# Altium schematic symbol library kmilo17pet-NSC_Interface.SchLib: 1433 symbols (part 33 of 51)
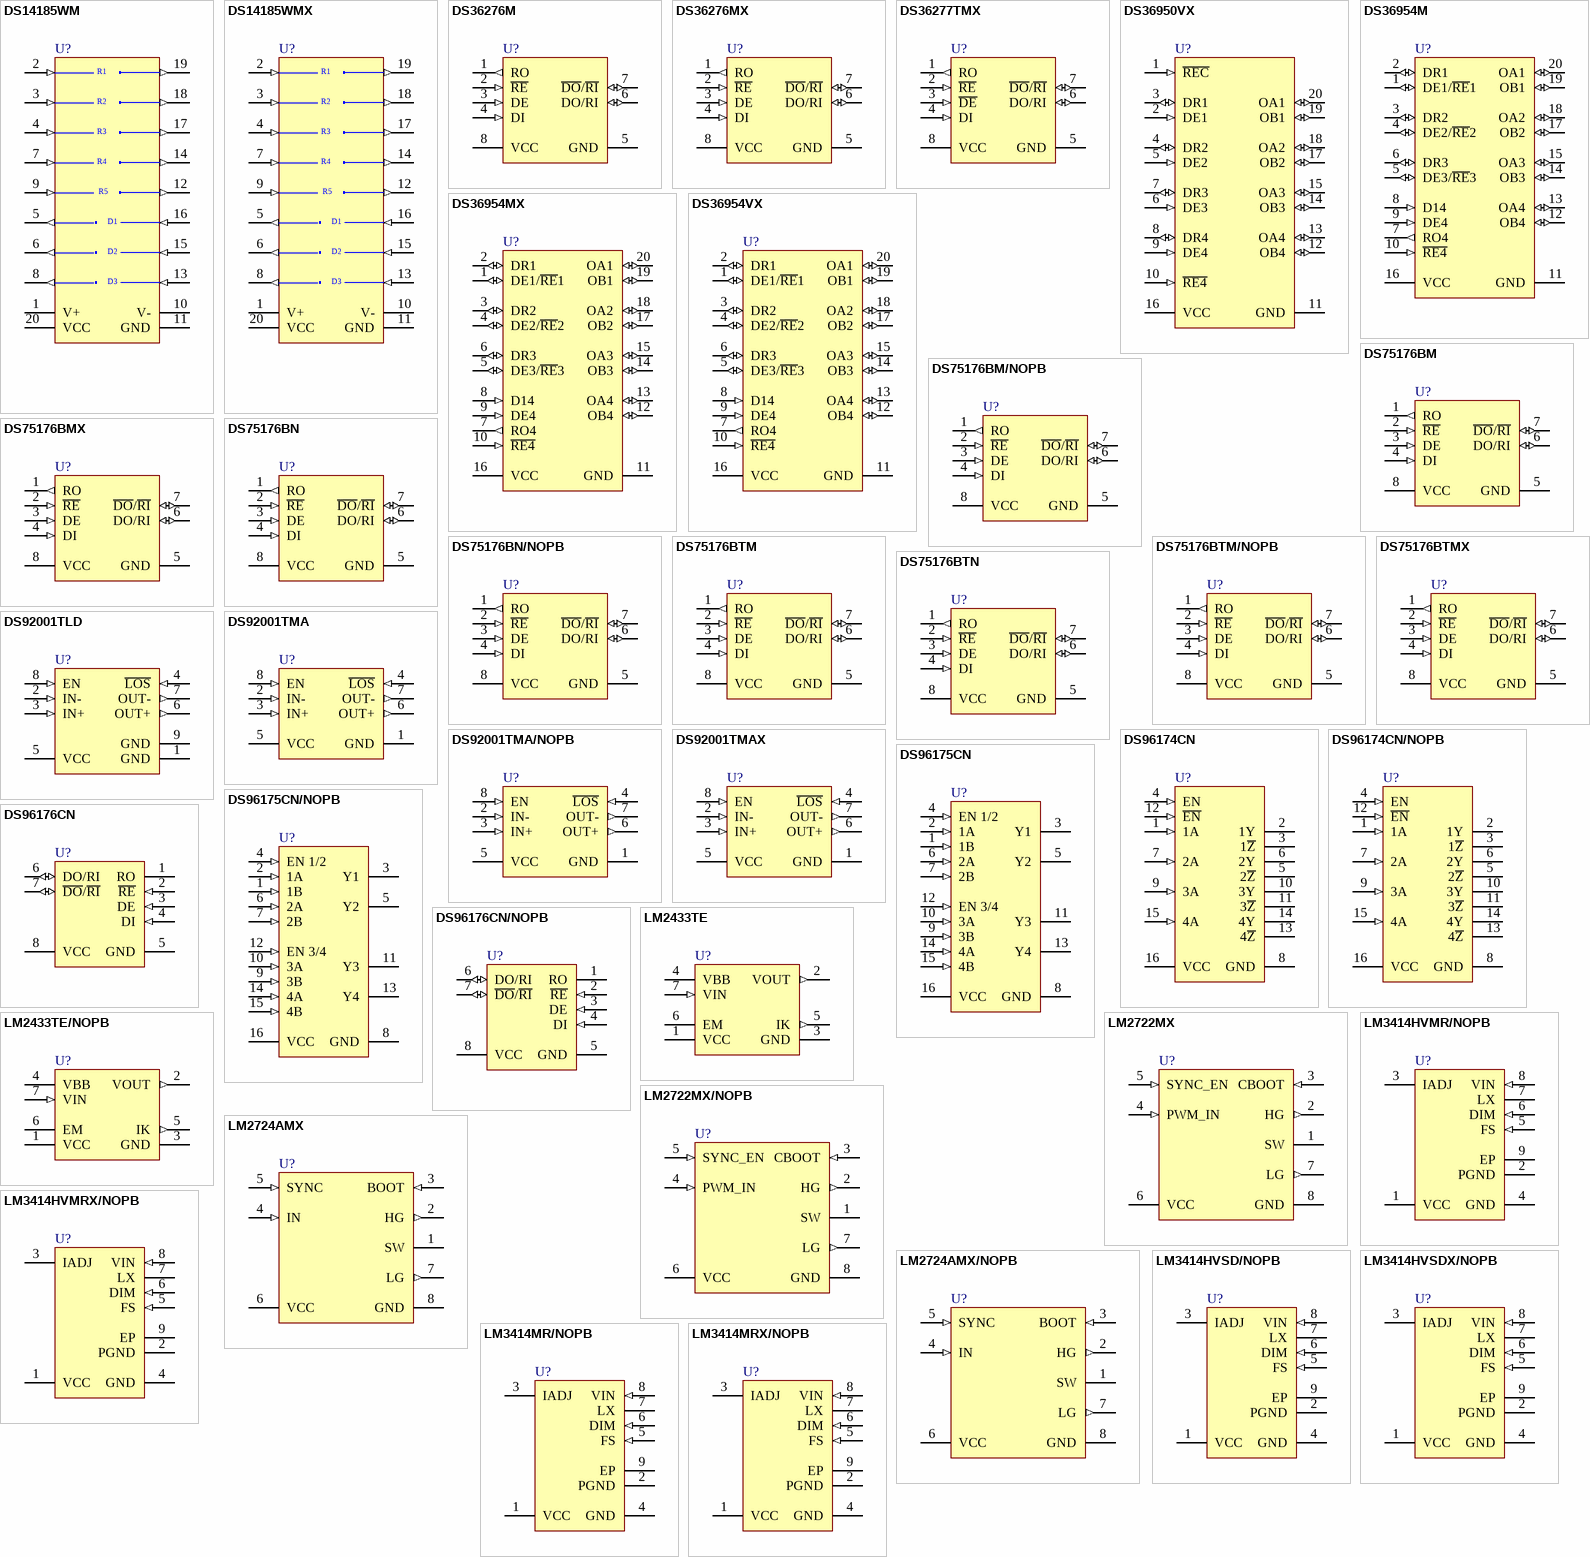
[diagram p156: symbols DS14185WM to LM3414MRX/NOPB]

## LM3414HVMRX/NOPB
designator U?
1A 60W Common Anode Capable Constant Current Buck LED Driver Requires No External Current Sensing Resistor, 8 pin PSOP; PartNumber: LM3414HVMRX/NOPB; Manufacturer: National Semiconductor; PackageTopMarking: NSXYTT*L3414*HVMR; PowerWise: Y; CompType: Interface IC; DatasheetVersion: Aug-2010; PackageVersion: revD, Dec-2007; PackageReference: MRA08A; PackageDescription: Molded, PSOP .193 x .154 x .058in, 8 Lead, .050in Pitch; RoHS: Y; PinCount: 8; High-Reliability: Y; Code_JEDEC: MS-012-AA; ComponentLink1Description: Manufacturer URL; ComponentLink1URL: http://www.national.com/; ComponentLink2Description: LM3414HV Datasheet; ComponentLink2URL: http://www.national.com/ds/LM/LM3414HV.pdf; ComponentLink3Description: LM3414HV Web Page; ComponentLink3URL: http://www.national.com/pf/LM/LM3414HV.html; ComponentLink4Description: MRA08A Package Page; ComponentLink4URL: http://www.national.com/packaging/folders/mra08a.html
footprint MRA08A_N (SOIC, 8-Leads, Body 4.9x3.9mm, Pitch 1.27mm, Thermal Pad, IPC Medium Density)
footprint MRA08A_L (SOIC, 8-Leads, Body 4.9x3.9mm, Pitch 1.27mm, Thermal Pad, IPC High Density)
footprint MRA08A_M (SOIC, 8-Leads, Body 4.9x3.9mm, Pitch 1.27mm, Thermal Pad, IPC Low Density)
pins: 1 VCC, 2 PGND (power), 3 IADJ, 4 GND (power), 5 FS (in), 6 DIM (in), 7 LX, 8 VIN (in), 9 EP (power)

## LM3414HVSD/NOPB
designator U?
1A 60W Common Anode Capable Constant Current Buck LED Driver Requires No External Current Sensing Resistor, 8 pin LLP; PartNumber: LM3414HVSD/NOPB; Manufacturer: National Semiconductor; PackageTopMarking: ZXYTT*L249B; PowerWise: Y; CompType: Interface IC; DatasheetVersion: Aug-2010; PackageVersion: revA, Aug-2003; PackageReference: SDA08A; PackageDescription: LLP, Plastic, Dual, 3 x 3 x 0.8mm Body, 8 Lead, 0.5mm Pitch, No Pullback; RoHS: Y; PinCount: 8; High-Reliability: Y; ComponentLink1Description: Manufacturer URL; ComponentLink1URL: http://www.national.com/; ComponentLink2Description: LM3414HV Datasheet; ComponentLink2URL: http://www.national.com/ds/LM/LM3414HV.pdf; ComponentLink3Description: LM3414HV Web Page; ComponentLink3URL: http://www.national.com/pf/LM/LM3414HV.html; ComponentLink4Description: SDA08A Package Page; ComponentLink4URL: http://www.national.com/packaging/folders/sda08a.html
footprint SDA08A (SON, 8-Leads, Body 3x3mm, Pitch 0.5mm, NSC Recommended)
pins: 1 VCC, 2 PGND (power), 3 IADJ, 4 GND (power), 5 FS (in), 6 DIM (in), 7 LX, 8 VIN (in), 9 EP (power)

## LM3414HVSDX/NOPB
designator U?
1A 60W Common Anode Capable Constant Current Buck LED Driver Requires No External Current Sensing Resistor, 8 pin LLP; PartNumber: LM3414HVSDX/NOPB; Manufacturer: National Semiconductor; PackageTopMarking: ZXYTT*L249B; PowerWise: Y; CompType: Interface IC; DatasheetVersion: Aug-2010; PackageVersion: revA, Aug-2003; PackageReference: SDA08A; PackageDescription: LLP, Plastic, Dual, 3 x 3 x 0.8mm Body, 8 Lead, 0.5mm Pitch, No Pullback; RoHS: Y; PinCount: 8; High-Reliability: Y; ComponentLink1Description: Manufacturer URL; ComponentLink1URL: http://www.national.com/; ComponentLink2Description: LM3414HV Datasheet; ComponentLink2URL: http://www.national.com/ds/LM/LM3414HV.pdf; ComponentLink3Description: LM3414HV Web Page; ComponentLink3URL: http://www.national.com/pf/LM/LM3414HV.html; ComponentLink4Description: SDA08A Package Page; ComponentLink4URL: http://www.national.com/packaging/folders/sda08a.html
footprint SDA08A (SON, 8-Leads, Body 3x3mm, Pitch 0.5mm, NSC Recommended)
pins: 1 VCC, 2 PGND (power), 3 IADJ, 4 GND (power), 5 FS (in), 6 DIM (in), 7 LX, 8 VIN (in), 9 EP (power)

## LM3414MR/NOPB
designator U?
1A 60W Common Anode Capable Constant Current Buck LED Driver Requires No External Current Sensing Resistor, 8 pin PSOP; PartNumber: LM3414MR/NOPB; Manufacturer: National Semiconductor; PackageTopMarking: NSXYTT*L3414*MR; PowerWise: Y; CompType: Interface IC; DatasheetVersion: Aug-2010; PackageVersion: revD, Dec-2007; PackageReference: MRA08A; PackageDescription: Molded, PSOP .193 x .154 x .058in, 8 Lead, .050in Pitch; RoHS: Y; PinCount: 8; High-Reliability: Y; Code_JEDEC: MS-012-AA; ComponentLink1Description: Manufacturer URL; ComponentLink1URL: http://www.national.com/; ComponentLink2Description: LM3414 Datasheet; ComponentLink2URL: http://www.national.com/ds/LM/LM3414.pdf; ComponentLink3Description: LM3414 Web Page; ComponentLink3URL: http://www.national.com/pf/LM/LM3414.html; ComponentLink4Description: MRA08A Package Page; ComponentLink4URL: http://www.national.com/packaging/folders/mra08a.html
footprint MRA08A_N (SOIC, 8-Leads, Body 4.9x3.9mm, Pitch 1.27mm, Thermal Pad, IPC Medium Density)
footprint MRA08A_L (SOIC, 8-Leads, Body 4.9x3.9mm, Pitch 1.27mm, Thermal Pad, IPC High Density)
footprint MRA08A_M (SOIC, 8-Leads, Body 4.9x3.9mm, Pitch 1.27mm, Thermal Pad, IPC Low Density)
pins: 1 VCC, 2 PGND (power), 3 IADJ, 4 GND (power), 5 FS (in), 6 DIM (in), 7 LX, 8 VIN (in), 9 EP (power)

## LM3414MRX/NOPB
designator U?
1A 60W Common Anode Capable Constant Current Buck LED Driver Requires No External Current Sensing Resistor, 8 pin PSOP; PartNumber: LM3414MRX/NOPB; Manufacturer: National Semiconductor; PackageTopMarking: NSXYTT*L3414*MR; PowerWise: Y; CompType: Interface IC; DatasheetVersion: Aug-2010; PackageVersion: revD, Dec-2007; PackageReference: MRA08A; PackageDescription: Molded, PSOP .193 x .154 x .058in, 8 Lead, .050in Pitch; RoHS: Y; PinCount: 8; High-Reliability: Y; Code_JEDEC: MS-012-AA; ComponentLink1Description: Manufacturer URL; ComponentLink1URL: http://www.national.com/; ComponentLink2Description: LM3414 Datasheet; ComponentLink2URL: http://www.national.com/ds/LM/LM3414.pdf; ComponentLink3Description: LM3414 Web Page; ComponentLink3URL: http://www.national.com/pf/LM/LM3414.html; ComponentLink4Description: MRA08A Package Page; ComponentLink4URL: http://www.national.com/packaging/folders/mra08a.html
footprint MRA08A_N (SOIC, 8-Leads, Body 4.9x3.9mm, Pitch 1.27mm, Thermal Pad, IPC Medium Density)
footprint MRA08A_L (SOIC, 8-Leads, Body 4.9x3.9mm, Pitch 1.27mm, Thermal Pad, IPC High Density)
footprint MRA08A_M (SOIC, 8-Leads, Body 4.9x3.9mm, Pitch 1.27mm, Thermal Pad, IPC Low Density)
pins: 1 VCC, 2 PGND (power), 3 IADJ, 4 GND (power), 5 FS (in), 6 DIM (in), 7 LX, 8 VIN (in), 9 EP (power)

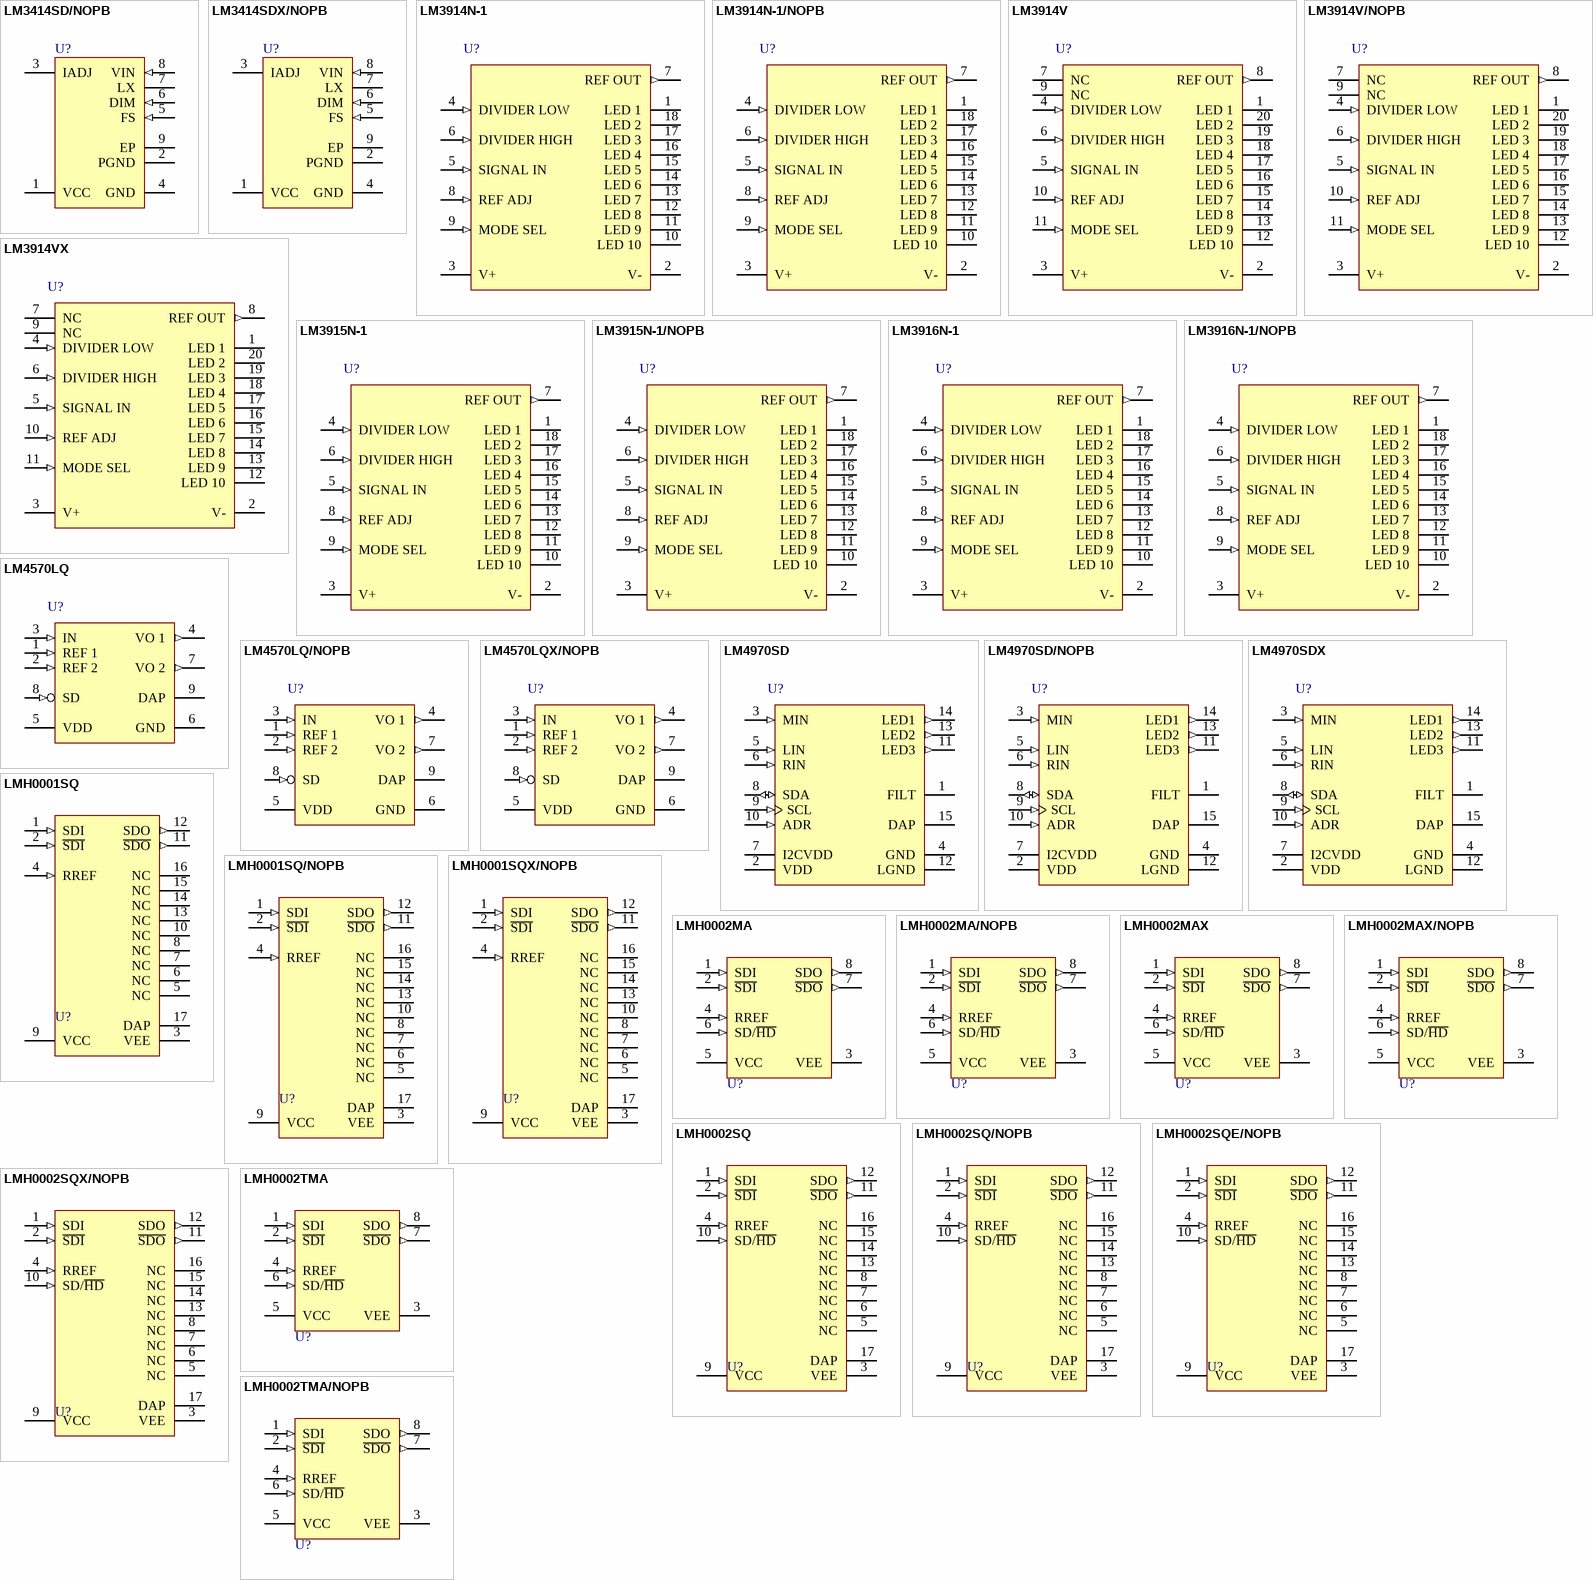
[diagram p82: symbols LM3414SD/NOPB to LMH0002TMA/NOPB]

## LM3414SD/NOPB
designator U?
1A 60W Common Anode Capable Constant Current Buck LED Driver Requires No External Current Sensing Resistor, 8 pin LLP; PartNumber: LM3414SD/NOPB; Manufacturer: National Semiconductor; PackageTopMarking: ZXYTT*L248B; PowerWise: Y; CompType: Interface IC; DatasheetVersion: Aug-2010; PackageVersion: revA, Aug-2003; PackageReference: SDA08A; PackageDescription: LLP, Plastic, Dual, 3 x 3 x 0.8mm Body, 8 Lead, 0.5mm Pitch, No Pullback; RoHS: Y; PinCount: 8; High-Reliability: Y; ComponentLink1Description: Manufacturer URL; ComponentLink1URL: http://www.national.com/; ComponentLink2Description: LM3414 Datasheet; ComponentLink2URL: http://www.national.com/ds/LM/LM3414.pdf; ComponentLink3Description: LM3414 Web Page; ComponentLink3URL: http://www.national.com/pf/LM/LM3414.html; ComponentLink4Description: SDA08A Package Page; ComponentLink4URL: http://www.national.com/packaging/folders/sda08a.html
footprint SDA08A (SON, 8-Leads, Body 3x3mm, Pitch 0.5mm, NSC Recommended)
pins: 1 VCC, 2 PGND (power), 3 IADJ, 4 GND (power), 5 FS (in), 6 DIM (in), 7 LX, 8 VIN (in), 9 EP (power)

## LM3414SDX/NOPB
designator U?
1A 60W Common Anode Capable Constant Current Buck LED Driver Requires No External Current Sensing Resistor, 8 pin LLP; PartNumber: LM3414SDX/NOPB; Manufacturer: National Semiconductor; PackageTopMarking: ZXYTT*L248B; PowerWise: Y; CompType: Interface IC; DatasheetVersion: Aug-2010; PackageVersion: revA, Aug-2003; PackageReference: SDA08A; PackageDescription: LLP, Plastic, Dual, 3 x 3 x 0.8mm Body, 8 Lead, 0.5mm Pitch, No Pullback; RoHS: Y; PinCount: 8; High-Reliability: Y; ComponentLink1Description: Manufacturer URL; ComponentLink1URL: http://www.national.com/; ComponentLink2Description: LM3414 Datasheet; ComponentLink2URL: http://www.national.com/ds/LM/LM3414.pdf; ComponentLink3Description: LM3414 Web Page; ComponentLink3URL: http://www.national.com/pf/LM/LM3414.html; ComponentLink4Description: SDA08A Package Page; ComponentLink4URL: http://www.national.com/packaging/folders/sda08a.html
footprint SDA08A (SON, 8-Leads, Body 3x3mm, Pitch 0.5mm, NSC Recommended)
pins: 1 VCC, 2 PGND (power), 3 IADJ, 4 GND (power), 5 FS (in), 6 DIM (in), 7 LX, 8 VIN (in), 9 EP (power)

## LM3914N-1
designator U?
Dot/Bar Display Driver, 18-pin MDIP; PartNumber: LM3914N-1; Manufacturer: National Semiconductor; PackageTopMarking: NSUZXYYTTE#*LM3914N-1; PowerWise: N; CompType: Audio IC; High-Reliability: Y; DatasheetVersion: Feb-2003; PackageVersion: revB, May-2006; PackageReference: NA18A; PackageDescription: MDIP, .900 x .250 x .155in, 18 Lead, .100in Pitch; RoHS: N; PinCount: 18; Code_JEDEC: MS-001-AC; ComponentLink1Description: Manufacturer URL; ComponentLink1URL: http://www.national.com/; ComponentLink2Description: LM3914 Datasheet; ComponentLink2URL: http://www.national.com/ds/LM/LM3914.pdf; ComponentLink3Description: LM3914 Web Page; ComponentLink3URL: http://www.national.com/pf/LM/LM3914.html; ComponentLink4Description: NA18A Package Page; ComponentLink4URL: http://www.national.com/packaging/folders/na18a.html
footprint NA18A (DIP, 18-Leads, Row Spacing 7.62mm, Pitch 2.54mm, Body 22.86x6.35mm)
footprint NA18A - SMD (Footprint not found)
pins: 1 LED 1 (oc), 2 V- (power), 3 V+ (power), 4 DIVIDER LOW (in), 5 SIGNAL IN (in), 6 DIVIDER HIGH (in), 7 REF OUT (out), 8 REF ADJ (in), 9 MODE SEL (in), 10 LED 10 (oc), 11 LED 9 (oc), 12 LED 8 (oc), 13 LED 7 (oc), 14 LED 6 (oc), 15 LED 5 (oc), 16 LED 4 (oc), 17 LED 3 (oc), 18 LED 2 (oc)

## LM3914N-1/NOPB
designator U?
Dot/Bar Display Driver, 18-pin MDIP, Pb-Free; PartNumber: LM3914N-1/NOPB; Manufacturer: National Semiconductor; PackageTopMarking: NSUZXYYTTE#*LM3914N-1; PowerWise: N; CompType: Audio IC; High-Reliability: Y; DatasheetVersion: Feb-2003; PackageVersion: revB, May-2006; PackageReference: NA18A; PackageDescription: MDIP, .900 x .250 x .155in, 18 Lead, .100in Pitch; RoHS: Y; PinCount: 18; Code_JEDEC: MS-001-AC; ComponentLink1Description: Manufacturer URL; ComponentLink1URL: http://www.national.com/; ComponentLink2Description: LM3914 Datasheet; ComponentLink2URL: http://www.national.com/ds/LM/LM3914.pdf; ComponentLink3Description: LM3914 Web Page; ComponentLink3URL: http://www.national.com/pf/LM/LM3914.html; ComponentLink4Description: NA18A Package Page; ComponentLink4URL: http://www.national.com/packaging/folders/na18a.html
footprint NA18A (DIP, 18-Leads, Row Spacing 7.62mm, Pitch 2.54mm, Body 22.86x6.35mm)
pins: 1 LED 1 (oc), 2 V- (power), 3 V+ (power), 4 DIVIDER LOW (in), 5 SIGNAL IN (in), 6 DIVIDER HIGH (in), 7 REF OUT (out), 8 REF ADJ (in), 9 MODE SEL (in), 10 LED 10 (oc), 11 LED 9 (oc), 12 LED 8 (oc), 13 LED 7 (oc), 14 LED 6 (oc), 15 LED 5 (oc), 16 LED 4 (oc), 17 LED 3 (oc), 18 LED 2 (oc)

## LM3914V
designator U?
Dot/Bar Display Driver, 20-pin PLCC; PartNumber: LM3914V; Manufacturer: National Semiconductor; PackageTopMarking: NSUZXYTTE#*LM3914V; PowerWise: N; CompType: Audio IC; High-Reliability: Y; DatasheetVersion: Feb-2003; PackageVersion: revL, Dec-1993; PackageReference: V20A; PackageDescription: Plastic Chip Carrier, Sq., .050in Pitch, 20 Lead; RoHS: N; PinCount: 20; Code_JEDEC: MO-047-AA; Code_IPC: PLCC-20; ComponentLink1Description: Manufacturer URL; ComponentLink1URL: http://www.national.com/; ComponentLink2Description: LM3914 Datasheet; ComponentLink2URL: http://www.national.com/ds/LM/LM3914.pdf; ComponentLink3Description: LM3914 Web Page; ComponentLink3URL: http://www.national.com/pf/LM/LM3914.html; ComponentLink4Description: V20A Package Page; ComponentLink4URL: http://www.national.com/packaging/folders/v20a.html
footprint V20A_N (Leaded Chip Carrier, 20-Leads, Body 9x9mm, Pitch 1.27mm, IPC Medium Density)
footprint V20A_L (Leaded Chip Carrier, 20-Leads, Body 9x9mm, Pitch 1.27mm, IPC High Density)
footprint V20A_M (Leaded Chip Carrier, 20-Leads, Body 9x9mm, Pitch 1.27mm, IPC Low Density)
pins: 1 LED 1 (oc), 2 V- (power), 3 V+ (power), 4 DIVIDER LOW (in), 5 SIGNAL IN (in), 6 DIVIDER HIGH (in), 7 NC, 8 REF OUT (out), 9 NC, 10 REF ADJ (in), 11 MODE SEL (in), 12 LED 10 (oc), 13 LED 9 (oc), 14 LED 8 (oc), 15 LED 7 (oc), 16 LED 6 (oc), 17 LED 5 (oc), 18 LED 4 (oc), 19 LED 3 (oc), 20 LED 2 (oc)

## LM3914V/NOPB
designator U?
Dot/Bar Display Driver, 20-pin PLCC, Pb-Free; PartNumber: LM3914V/NOPB; Manufacturer: National Semiconductor; PackageTopMarking: NSUZXYTTE#*LM3914V; PowerWise: N; CompType: Audio IC; High-Reliability: Y; DatasheetVersion: Feb-2003; PackageVersion: revL, Dec-1993; PackageReference: V20A; PackageDescription: Plastic Chip Carrier, Sq., .050in Pitch, 20 Lead; RoHS: Y; PinCount: 20; Code_JEDEC: MO-047-AA; Code_IPC: PLCC-20; ComponentLink1Description: Manufacturer URL; ComponentLink1URL: http://www.national.com/; ComponentLink2Description: LM3914 Datasheet; ComponentLink2URL: http://www.national.com/ds/LM/LM3914.pdf; ComponentLink3Description: LM3914 Web Page; ComponentLink3URL: http://www.national.com/pf/LM/LM3914.html; ComponentLink4Description: V20A Package Page; ComponentLink4URL: http://www.national.com/packaging/folders/v20a.html
footprint V20A_N (Leaded Chip Carrier, 20-Leads, Body 9x9mm, Pitch 1.27mm, IPC Medium Density)
footprint V20A_L (Leaded Chip Carrier, 20-Leads, Body 9x9mm, Pitch 1.27mm, IPC High Density)
footprint V20A_M (Leaded Chip Carrier, 20-Leads, Body 9x9mm, Pitch 1.27mm, IPC Low Density)
pins: 1 LED 1 (oc), 2 V- (power), 3 V+ (power), 4 DIVIDER LOW (in), 5 SIGNAL IN (in), 6 DIVIDER HIGH (in), 7 NC, 8 REF OUT (out), 9 NC, 10 REF ADJ (in), 11 MODE SEL (in), 12 LED 10 (oc), 13 LED 9 (oc), 14 LED 8 (oc), 15 LED 7 (oc), 16 LED 6 (oc), 17 LED 5 (oc), 18 LED 4 (oc), 19 LED 3 (oc), 20 LED 2 (oc)

## LM3914VX
designator U?
Dot/Bar Display Driver, 20-pin PLCC; PartNumber: LM3914VX; Manufacturer: National Semiconductor; PackageTopMarking: NSUZXYTTE#*LM3914V; PowerWise: N; CompType: Audio IC; High-Reliability: Y; DatasheetVersion: Feb-2003; PackageVersion: revL, Dec-1993; PackageReference: V20A; PackageDescription: Plastic Chip Carrier, Sq., .050in Pitch, 20 Lead; RoHS: N; PinCount: 20; Code_JEDEC: MO-047-AA; Code_IPC: PLCC-20; ComponentLink1Description: Manufacturer URL; ComponentLink1URL: http://www.national.com/; ComponentLink2Description: LM3914 Datasheet; ComponentLink2URL: http://www.national.com/ds/LM/LM3914.pdf; ComponentLink3Description: LM3914 Web Page; ComponentLink3URL: http://www.national.com/pf/LM/LM3914.html; ComponentLink4Description: V20A Package Page; ComponentLink4URL: http://www.national.com/packaging/folders/v20a.html
footprint V20A_N (Leaded Chip Carrier, 20-Leads, Body 9x9mm, Pitch 1.27mm, IPC Medium Density)
footprint V20A_L (Leaded Chip Carrier, 20-Leads, Body 9x9mm, Pitch 1.27mm, IPC High Density)
footprint V20A_M (Leaded Chip Carrier, 20-Leads, Body 9x9mm, Pitch 1.27mm, IPC Low Density)
pins: 1 LED 1 (oc), 2 V- (power), 3 V+ (power), 4 DIVIDER LOW (in), 5 SIGNAL IN (in), 6 DIVIDER HIGH (in), 7 NC, 8 REF OUT (out), 9 NC, 10 REF ADJ (in), 11 MODE SEL (in), 12 LED 10 (oc), 13 LED 9 (oc), 14 LED 8 (oc), 15 LED 7 (oc), 16 LED 6 (oc), 17 LED 5 (oc), 18 LED 4 (oc), 19 LED 3 (oc), 20 LED 2 (oc)

## LM3915N-1
designator U?
Dot/Bar Display Driver, 18-pin MDIP; PartNumber: LM3915N-1; Manufacturer: National Semiconductor; PackageTopMarking: NSUZXYYTTE#*LM3915N-1; PowerWise: N; CompType: Audio IC; High-Reliability: Y; DatasheetVersion: Feb-2001; PackageVersion: revB, May-2006; PackageReference: NA18A; PackageDescription: MDIP, .900 x .250 x .155in, 18 Lead, .100in Pitch; RoHS: N; PinCount: 18; Code_JEDEC: MS-001-AC; ComponentLink1Description: Manufacturer URL; ComponentLink1URL: http://www.national.com/; ComponentLink2Description: LM3915 Datasheet; ComponentLink2URL: http://www.national.com/ds/LM/LM3915.pdf; ComponentLink3Description: LM3915 Web Page; ComponentLink3URL: http://www.national.com/pf/LM/LM3915.html; ComponentLink4Description: NA18A Package Page; ComponentLink4URL: http://www.national.com/packaging/folders/na18a.html
footprint NA18A (DIP, 18-Leads, Row Spacing 7.62mm, Pitch 2.54mm, Body 22.86x6.35mm)
pins: 1 LED 1 (oc), 2 V- (power), 3 V+ (power), 4 DIVIDER LOW (in), 5 SIGNAL IN (in), 6 DIVIDER HIGH (in), 7 REF OUT (out), 8 REF ADJ (in), 9 MODE SEL (in), 10 LED 10 (oc), 11 LED 9 (oc), 12 LED 8 (oc), 13 LED 7 (oc), 14 LED 6 (oc), 15 LED 5 (oc), 16 LED 4 (oc), 17 LED 3 (oc), 18 LED 2 (oc)

## LM3915N-1/NOPB
designator U?
Dot/Bar Display Driver, 18-pin MDIP, Pb-Free; PartNumber: LM3915N-1/NOPB; Manufacturer: National Semiconductor; PackageTopMarking: NSUZXYYTTE#*LM3915N-1; PowerWise: N; CompType: Audio IC; High-Reliability: Y; DatasheetVersion: Feb-2001; PackageVersion: revB, May-2006; PackageReference: NA18A; PackageDescription: MDIP, .900 x .250 x .155in, 18 Lead, .100in Pitch; RoHS: Y; PinCount: 18; Code_JEDEC: MS-001-AC; ComponentLink1Description: Manufacturer URL; ComponentLink1URL: http://www.national.com/; ComponentLink2Description: LM3915 Datasheet; ComponentLink2URL: http://www.national.com/ds/LM/LM3915.pdf; ComponentLink3Description: LM3915 Web Page; ComponentLink3URL: http://www.national.com/pf/LM/LM3915.html; ComponentLink4Description: NA18A Package Page; ComponentLink4URL: http://www.national.com/packaging/folders/na18a.html
footprint NA18A (DIP, 18-Leads, Row Spacing 7.62mm, Pitch 2.54mm, Body 22.86x6.35mm)
pins: 1 LED 1 (oc), 2 V- (power), 3 V+ (power), 4 DIVIDER LOW (in), 5 SIGNAL IN (in), 6 DIVIDER HIGH (in), 7 REF OUT (out), 8 REF ADJ (in), 9 MODE SEL (in), 10 LED 10 (oc), 11 LED 9 (oc), 12 LED 8 (oc), 13 LED 7 (oc), 14 LED 6 (oc), 15 LED 5 (oc), 16 LED 4 (oc), 17 LED 3 (oc), 18 LED 2 (oc)

## LM3916N-1
designator U?
Dot/Bar Display Driver, 18-pin MDIP; PartNumber: LM3916N-1; Manufacturer: National Semiconductor; PackageTopMarking: NSUZXYYTTE#*LM3916N-1; PowerWise: N; CompType: Audio IC; High-Reliability: Y; DatasheetVersion: Jan-2000; PackageVersion: revB, May-2006; PackageReference: NA18A; PackageDescription: MDIP, .900 x .250 x .155in, 18 Lead, .100in Pitch; RoHS: N; PinCount: 18; Code_JEDEC: MS-001-AC; ComponentLink1Description: Manufacturer URL; ComponentLink1URL: http://www.national.com/; ComponentLink2Description: LM3916 Datasheet; ComponentLink2URL: http://www.national.com/ds/LM/LM3916.pdf; ComponentLink3Description: LM3916 Web Page; ComponentLink3URL: http://www.national.com/pf/LM/LM3916.html; ComponentLink4Description: NA18A Package Page; ComponentLink4URL: http://www.national.com/packaging/folders/na18a.html
footprint NA18A (DIP, 18-Leads, Row Spacing 7.62mm, Pitch 2.54mm, Body 22.86x6.35mm)
pins: 1 LED 1 (oc), 2 V- (power), 3 V+ (power), 4 DIVIDER LOW (in), 5 SIGNAL IN (in), 6 DIVIDER HIGH (in), 7 REF OUT (out), 8 REF ADJ (in), 9 MODE SEL (in), 10 LED 10 (oc), 11 LED 9 (oc), 12 LED 8 (oc), 13 LED 7 (oc), 14 LED 6 (oc), 15 LED 5 (oc), 16 LED 4 (oc), 17 LED 3 (oc), 18 LED 2 (oc)

## LM3916N-1/NOPB
designator U?
Dot/Bar Display Driver, 18-pin MDIP, Pb-Free; PartNumber: LM3916N-1/NOPB; Manufacturer: National Semiconductor; PackageTopMarking: NSUZXYYTTE#*LM3916N-1; PowerWise: N; CompType: Audio IC; High-Reliability: Y; DatasheetVersion: Jan-2000; PackageVersion: revB, May-2006; PackageReference: NA18A; PackageDescription: MDIP, .900 x .250 x .155in, 18 Lead, .100in Pitch; RoHS: Y; PinCount: 18; Code_JEDEC: MS-001-AC; ComponentLink1Description: Manufacturer URL; ComponentLink1URL: http://www.national.com/; ComponentLink2Description: LM3916 Datasheet; ComponentLink2URL: http://www.national.com/ds/LM/LM3916.pdf; ComponentLink3Description: LM3916 Web Page; ComponentLink3URL: http://www.national.com/pf/LM/LM3916.html; ComponentLink4Description: NA18A Package Page; ComponentLink4URL: http://www.national.com/packaging/folders/na18a.html
footprint NA18A (DIP, 18-Leads, Row Spacing 7.62mm, Pitch 2.54mm, Body 22.86x6.35mm)
pins: 1 LED 1 (oc), 2 V- (power), 3 V+ (power), 4 DIVIDER LOW (in), 5 SIGNAL IN (in), 6 DIVIDER HIGH (in), 7 REF OUT (out), 8 REF ADJ (in), 9 MODE SEL (in), 10 LED 10 (oc), 11 LED 9 (oc), 12 LED 8 (oc), 13 LED 7 (oc), 14 LED 6 (oc), 15 LED 5 (oc), 16 LED 4 (oc), 17 LED 3 (oc), 18 LED 2 (oc)

## LM4570LQ
designator U?
Single-Ended Input Motor Driver, 9-pin LLP; PartNumber: LM4570LQ; Manufacturer: National Semiconductor; PackageTopMarking: XTT*GC8; PowerWise: N; CompType: Audio IC; High-Reliability: Y; DatasheetVersion: Jul-2009; PackageVersion: revB, Nov-2002; PackageReference: LQB08A; PackageDescription: LLP, Plastic, Quad, 2 x 2 x 0.75mm Body, 8 Lead, 0.65mm Pitch; RoHS: Y; PinCount: 8; ComponentLink1Description: Manufacturer URL; ComponentLink1URL: http://www.national.com/; ComponentLink2Description: LM4570 Datasheet; ComponentLink2URL: http://www.national.com/ds/LM/LM4570.pdf; ComponentLink3Description: LM4570 Web Page; ComponentLink3URL: http://www.national.com/pf/LM/LM4570.html; ComponentLink4Description: LQB08A Package Page; ComponentLink4URL: http://www.national.com/packaging/folders/lqb08a.html
footprint LQB08A (PQFN, 8-Leads, Body 2x2mm, Pitch 0.65mm, Thermal Pad 0.8x0.8mm, NSC Recommended)
pins: 1 REF 1 (in), 2 REF 2 (in), 3 IN (in), 4 VO 1 (out), 5 VDD (power), 6 GND (power), 7 VO 2 (out), 8 SD (in), 9 DAP (power)

## LM4570LQ/NOPB
designator U?
Single-Ended Input Motor Driver, 8-pin LLP, Pb-Free; PartNumber: LM4570LQ/NOPB; Manufacturer: National Semiconductor; PackageTopMarking: XTT*GC8; PowerWise: N; CompType: Audio IC; High-Reliability: Y; DatasheetVersion: Jul-2009; PackageVersion: revB, Nov-2002; PackageReference: LQB08A; PackageDescription: LLP, Plastic, Quad, 2 x 2 x 0.75mm Body, 8 Lead, 0.65mm Pitch; RoHS: Y; PinCount: 8; ComponentLink1Description: Manufacturer URL; ComponentLink1URL: http://www.national.com/; ComponentLink2Description: LM4570 Datasheet; ComponentLink2URL: http://www.national.com/ds/LM/LM4570.pdf; ComponentLink3Description: LM4570 Web Page; ComponentLink3URL: http://www.national.com/pf/LM/LM4570.html; ComponentLink4Description: LQB08A Package Page; ComponentLink4URL: http://www.national.com/packaging/folders/lqb08a.html
footprint LQB08A (PQFN, 8-Leads, Body 2x2mm, Pitch 0.65mm, Thermal Pad 0.8x0.8mm, NSC Recommended)
pins: 1 REF 1 (in), 2 REF 2 (in), 3 IN (in), 4 VO 1 (out), 5 VDD (power), 6 GND (power), 7 VO 2 (out), 8 SD (in), 9 DAP (power)

## LM4570LQX/NOPB
designator U?
Single-Ended Input Motor Driver, 8-pin LLP, Pb-Free; PartNumber: LM4570LQX/NOPB; Manufacturer: National Semiconductor; PackageTopMarking: XTT*GC8; PowerWise: N; CompType: Audio IC; High-Reliability: Y; DatasheetVersion: Jul-2009; PackageVersion: revB, Nov-2002; PackageReference: LQB08A; PackageDescription: LLP, Plastic, Quad, 2 x 2 x 0.75mm Body, 8 Lead, 0.65mm Pitch; RoHS: Y; PinCount: 8; ComponentLink1Description: Manufacturer URL; ComponentLink1URL: http://www.national.com/; ComponentLink2Description: LM4570 Datasheet; ComponentLink2URL: http://www.national.com/ds/LM/LM4570.pdf; ComponentLink3Description: LM4570 Web Page; ComponentLink3URL: http://www.national.com/pf/LM/LM4570.html; ComponentLink4Description: LQB08A Package Page; ComponentLink4URL: http://www.national.com/packaging/folders/lqb08a.html
footprint LQB08A (PQFN, 8-Leads, Body 2x2mm, Pitch 0.65mm, Thermal Pad 0.8x0.8mm, NSC Recommended)
pins: 1 REF 1 (in), 2 REF 2 (in), 3 IN (in), 4 VO 1 (out), 5 VDD (power), 6 GND (power), 7 VO 2 (out), 8 SD (in), 9 DAP (power)

## LM4970SD
designator U?
Audio Synchronized Color LED Driver, 15-pin LLP; PartNumber: LM4970SD; Manufacturer: National Semiconductor; PackageTopMarking: ZXYTTE#*L4970; PowerWise: Y; CompType: Audio IC; DatasheetVersion: Apr-2008; PackageVersion: revA, Jun-2003; PackageReference: SDA14A; PackageDescription: LLP, Plastic, Dual, 4 x 3 x 0.8mm Body, 14 Lead, 0.5mm Pitch, No Pullback; RoHS: N; PinCount: 14; High-Reliability: Y; ComponentLink1Description: Manufacturer URL; ComponentLink1URL: http://www.national.com/; ComponentLink2Description: LM4970 Datasheet; ComponentLink2URL: http://www.national.com/ds/LM/LM4970.pdf; ComponentLink3Description: LM4970 Web Page; ComponentLink3URL: http://www.national.com/pf/LM/LM4970.html; ComponentLink4Description: SDA14A Package Page; ComponentLink4URL: http://www.national.com/packaging/folders/sda14a.html
footprint SDA14A (SON, 14-Leads, Body 4x3mm, Pitch 0.5mm, NSC Recommended)
pins: 1 FILT, 2 VDD (power), 3 MIN (in), 4 GND (power), 5 LIN (in), 6 RIN (in), 7 I2CVDD (power), 8 SDA (io), 9 SCL (in), 10 ADR (in), 11 LED3 (out), 12 LGND (power), 13 LED2 (out), 14 LED1 (out), 15 DAP (power)

## LM4970SD/NOPB
designator U?
Audio Synchronized Color LED Driver, 14-pin LLP, Pb-Free; PartNumber: LM4970SD/NOPB; Manufacturer: National Semiconductor; PackageTopMarking: ZXYTTE#*L4970; PowerWise: Y; CompType: Audio IC; DatasheetVersion: Apr-2008; PackageVersion: revA, Jun-2003; PackageReference: SDA14A; PackageDescription: LLP, Plastic, Dual, 4 x 3 x 0.8mm Body, 14 Lead, 0.5mm Pitch, No Pullback; RoHS: Y; PinCount: 14; High-Reliability: Y; ComponentLink1Description: Manufacturer URL; ComponentLink1URL: http://www.national.com/; ComponentLink2Description: LM4970 Datasheet; ComponentLink2URL: http://www.national.com/ds/LM/LM4970.pdf; ComponentLink3Description: LM4970 Web Page; ComponentLink3URL: http://www.national.com/pf/LM/LM4970.html; ComponentLink4Description: SDA14A Package Page; ComponentLink4URL: http://www.national.com/packaging/folders/sda14a.html
footprint SDA14A (SON, 14-Leads, Body 4x3mm, Pitch 0.5mm, NSC Recommended)
pins: 1 FILT, 2 VDD (power), 3 MIN (in), 4 GND (power), 5 LIN (in), 6 RIN (in), 7 I2CVDD (power), 8 SDA (io), 9 SCL (in), 10 ADR (in), 11 LED3 (out), 12 LGND (power), 13 LED2 (out), 14 LED1 (out), 15 DAP (power)

## LM4970SDX
designator U?
Audio Synchronized Color LED Driver, 14-pin LLP; PartNumber: LM4970SDX; Manufacturer: National Semiconductor; PackageTopMarking: ZXYTTE#*L4970; PowerWise: Y; CompType: Audio IC; DatasheetVersion: Apr-2008; PackageVersion: revA, Jun-2003; PackageReference: SDA14A; PackageDescription: LLP, Plastic, Dual, 4 x 3 x 0.8mm Body, 14 Lead, 0.5mm Pitch, No Pullback; RoHS: N; PinCount: 14; High-Reliability: Y; ComponentLink1Description: Manufacturer URL; ComponentLink1URL: http://www.national.com/; ComponentLink2Description: LM4970 Datasheet; ComponentLink2URL: http://www.national.com/ds/LM/LM4970.pdf; ComponentLink3Description: LM4970 Web Page; ComponentLink3URL: http://www.national.com/pf/LM/LM4970.html; ComponentLink4Description: SDA14A Package Page; ComponentLink4URL: http://www.national.com/packaging/folders/sda14a.html
footprint SDA14A (SON, 14-Leads, Body 4x3mm, Pitch 0.5mm, NSC Recommended)
pins: 1 FILT, 2 VDD (power), 3 MIN (in), 4 GND (power), 5 LIN (in), 6 RIN (in), 7 I2CVDD (power), 8 SDA (io), 9 SCL (in), 10 ADR (in), 11 LED3 (out), 12 LGND (power), 13 LED2 (out), 14 LED1 (out), 15 DAP (power)

## LMH0001SQ
designator U?
SMPTE 259M / 344M Serial Digital Cable Driver, 16-pin LLP; PartNumber: LMH0001SQ; Manufacturer: National Semiconductor; PackageTopMarking: NS*UZXYTT*L001; PowerWise: N; CompType: Interface IC; High-Reliability: Y; DatasheetVersion: Jan-2008; PackageVersion: revA, Dec-2005; PackageReference: SQB16A; PackageDescription: LLP, Plastic, Quad, 4 x 4 x 0.8mm, 16 Lead, 0.65mm Pitch, No Pullback; RoHS: Y; PinCount: 16; ComponentLink1Description: Manufacturer URL; ComponentLink1URL: http://www.national.com/; ComponentLink2Description: LMH0001 Datasheet; ComponentLink2URL: http://www.national.com/ds/LM/LMH0001.pdf; ComponentLink3Description: LMH0001 Web Page; ComponentLink3URL: http://www.national.com/pf/LM/LMH0001.html; ComponentLink4Description: SQB16A Package Page; ComponentLink4URL: http://www.national.com/packaging/folders/sqb16a.html
footprint SQB16A (QFN, 16-Leads, Body 4x4mm, Pitch 0.65mm, Thermal Pad 2.6x2.6mm, NSC Recommended)
pins: 1 SDI (in), 2 ~{SDI} (in), 3 VEE (power), 4 RREF (in), 5 NC, 6 NC, 7 NC, 8 NC, 9 VCC (power), 10 NC, 11 ~{SDO} (out), 12 SDO (out), 13 NC, 14 NC, 15 NC, 16 NC, 17 DAP (power)

## LMH0001SQ/NOPB
designator U?
SMPTE 259M / 344M Serial Digital Cable Driver, 16-pin LLP, Pb-Free; PartNumber: LMH0001SQ/NOPB; Manufacturer: National Semiconductor; PackageTopMarking: NS*UZXYTT*L001; PowerWise: N; CompType: Interface IC; High-Reliability: Y; DatasheetVersion: Jan-2008; PackageVersion: revA, Dec-2005; PackageReference: SQB16A; PackageDescription: LLP, Plastic, Quad, 4 x 4 x 0.8mm, 16 Lead, 0.65mm Pitch, No Pullback; RoHS: Y; PinCount: 16; ComponentLink1Description: Manufacturer URL; ComponentLink1URL: http://www.national.com/; ComponentLink2Description: LMH0001 Datasheet; ComponentLink2URL: http://www.national.com/ds/LM/LMH0001.pdf; ComponentLink3Description: LMH0001 Web Page; ComponentLink3URL: http://www.national.com/pf/LM/LMH0001.html; ComponentLink4Description: SQB16A Package Page; ComponentLink4URL: http://www.national.com/packaging/folders/sqb16a.html
footprint SQB16A (QFN, 16-Leads, Body 4x4mm, Pitch 0.65mm, Thermal Pad 2.6x2.6mm, NSC Recommended)
pins: 1 SDI (in), 2 ~{SDI} (in), 3 VEE (power), 4 RREF (in), 5 NC, 6 NC, 7 NC, 8 NC, 9 VCC (power), 10 NC, 11 ~{SDO} (out), 12 SDO (out), 13 NC, 14 NC, 15 NC, 16 NC, 17 DAP (power)

## LMH0001SQX/NOPB
designator U?
SMPTE 259M / 344M Serial Digital Cable Driver, 16-pin LLP, Pb-Free; PartNumber: LMH0001SQX/NOPB; Manufacturer: National Semiconductor; PackageTopMarking: NS*UZXYTT*L001; PowerWise: N; CompType: Interface IC; High-Reliability: Y; DatasheetVersion: Jan-2008; PackageVersion: revA, Dec-2005; PackageReference: SQB16A; PackageDescription: LLP, Plastic, Quad, 4 x 4 x 0.8mm, 16 Lead, 0.65mm Pitch, No Pullback; RoHS: Y; PinCount: 16; ComponentLink1Description: Manufacturer URL; ComponentLink1URL: http://www.national.com/; ComponentLink2Description: LMH0001 Datasheet; ComponentLink2URL: http://www.national.com/ds/LM/LMH0001.pdf; ComponentLink3Description: LMH0001 Web Page; ComponentLink3URL: http://www.national.com/pf/LM/LMH0001.html; ComponentLink4Description: SQB16A Package Page; ComponentLink4URL: http://www.national.com/packaging/folders/sqb16a.html
footprint SQB16A (QFN, 16-Leads, Body 4x4mm, Pitch 0.65mm, Thermal Pad 2.6x2.6mm, NSC Recommended)
pins: 1 SDI (in), 2 ~{SDI} (in), 3 VEE (power), 4 RREF (in), 5 NC, 6 NC, 7 NC, 8 NC, 9 VCC (power), 10 NC, 11 ~{SDO} (out), 12 SDO (out), 13 NC, 14 NC, 15 NC, 16 NC, 17 DAP (power)

## LMH0002MA
designator U?
SMPTE 292M / 259M Serial Digital Cable Driver, 8-pin Narrow SOIC; PartNumber: LMH0002MA; Manufacturer: National Semiconductor; PackageTopMarking: NSZXTT*L002; PowerWise: N; CompType: Interface IC; High-Reliability: Y; DatasheetVersion: Aug-2008; PackageVersion: revM, May-2009; PackageReference: M08A; PackageDescription: SOIC Narrow, 4.9 x 3.9 x 1.45mm, 8 Lead, 1.27mm Pitch; RoHS: N; PinCount: 8; Code_JEDEC: MS-012-AA; Code_IPC: SOIC127P600-8; ComponentLink1Description: Manufacturer URL; ComponentLink1URL: http://www.national.com/; ComponentLink2Description: LMH0002 Datasheet; ComponentLink2URL: http://www.national.com/ds/LM/LMH0002.pdf; ComponentLink3Description: LMH0002 Web Page; ComponentLink3URL: http://www.national.com/pf/LM/LMH0002.html; ComponentLink4Description: M08A Package Page; ComponentLink4URL: http://www.national.com/packaging/folders/m08a.html
footprint M08A_N (SOIC, 8-Leads, Body 4.9x3.9mm, Pitch 1.27mm, IPC Medium Density)
footprint M08A_L (SOIC, 8-Leads, Body 4.9x3.9mm, Pitch 1.27mm, IPC High Density)
footprint M08A_M (SOIC, 8-Leads, Body 4.9x3.9mm, Pitch 1.27mm, IPC Low Density)
pins: 1 SDI (in), 2 ~{SDI} (in), 3 VEE (power), 4 RREF (in), 5 VCC (power), 6 SD/~{HD} (in), 7 ~{SDO} (out), 8 SDO (out)

## LMH0002MA/NOPB
designator U?
SMPTE 292M / 259M Serial Digital Cable Driver, 8-pin Narrow SOIC, Pb-Free; PartNumber: LMH0002MA/NOPB; Manufacturer: National Semiconductor; PackageTopMarking: NSZXTT*L002; PowerWise: N; CompType: Interface IC; High-Reliability: Y; DatasheetVersion: Aug-2008; PackageVersion: revM, May-2009; PackageReference: M08A; PackageDescription: SOIC Narrow, 4.9 x 3.9 x 1.45mm, 8 Lead, 1.27mm Pitch; RoHS: Y; PinCount: 8; Code_JEDEC: MS-012-AA; Code_IPC: SOIC127P600-8; ComponentLink1Description: Manufacturer URL; ComponentLink1URL: http://www.national.com/; ComponentLink2Description: LMH0002 Datasheet; ComponentLink2URL: http://www.national.com/ds/LM/LMH0002.pdf; ComponentLink3Description: LMH0002 Web Page; ComponentLink3URL: http://www.national.com/pf/LM/LMH0002.html; ComponentLink4Description: M08A Package Page; ComponentLink4URL: http://www.national.com/packaging/folders/m08a.html
footprint M08A_N (SOIC, 8-Leads, Body 4.9x3.9mm, Pitch 1.27mm, IPC Medium Density)
footprint M08A_L (SOIC, 8-Leads, Body 4.9x3.9mm, Pitch 1.27mm, IPC High Density)
footprint M08A_M (SOIC, 8-Leads, Body 4.9x3.9mm, Pitch 1.27mm, IPC Low Density)
pins: 1 SDI (in), 2 ~{SDI} (in), 3 VEE (power), 4 RREF (in), 5 VCC (power), 6 SD/~{HD} (in), 7 ~{SDO} (out), 8 SDO (out)

## LMH0002MAX
designator U?
SMPTE 292M / 259M Serial Digital Cable Driver, 8-pin Narrow SOIC; PartNumber: LMH0002MAX; Manufacturer: National Semiconductor; PackageTopMarking: NSZXTT*L002; PowerWise: N; CompType: Interface IC; High-Reliability: Y; DatasheetVersion: Aug-2008; PackageVersion: revM, May-2009; PackageReference: M08A; PackageDescription: SOIC Narrow, 4.9 x 3.9 x 1.45mm, 8 Lead, 1.27mm Pitch; RoHS: N; PinCount: 8; Code_JEDEC: MS-012-AA; Code_IPC: SOIC127P600-8; ComponentLink1Description: Manufacturer URL; ComponentLink1URL: http://www.national.com/; ComponentLink2Description: LMH0002 Datasheet; ComponentLink2URL: http://www.national.com/ds/LM/LMH0002.pdf; ComponentLink3Description: LMH0002 Web Page; ComponentLink3URL: http://www.national.com/pf/LM/LMH0002.html; ComponentLink4Description: M08A Package Page; ComponentLink4URL: http://www.national.com/packaging/folders/m08a.html
footprint M08A_N (SOIC, 8-Leads, Body 4.9x3.9mm, Pitch 1.27mm, IPC Medium Density)
footprint M08A_L (SOIC, 8-Leads, Body 4.9x3.9mm, Pitch 1.27mm, IPC High Density)
footprint M08A_M (SOIC, 8-Leads, Body 4.9x3.9mm, Pitch 1.27mm, IPC Low Density)
pins: 1 SDI (in), 2 ~{SDI} (in), 3 VEE (power), 4 RREF (in), 5 VCC (power), 6 SD/~{HD} (in), 7 ~{SDO} (out), 8 SDO (out)

## LMH0002MAX/NOPB
designator U?
SMPTE 292M / 259M Serial Digital Cable Driver, 8-pin Narrow SOIC, Pb-Free; PartNumber: LMH0002MAX/NOPB; Manufacturer: National Semiconductor; PackageTopMarking: NSZXTT*L002; PowerWise: N; CompType: Interface IC; High-Reliability: Y; DatasheetVersion: Aug-2008; PackageVersion: revM, May-2009; PackageReference: M08A; PackageDescription: SOIC Narrow, 4.9 x 3.9 x 1.45mm, 8 Lead, 1.27mm Pitch; RoHS: Y; PinCount: 8; Code_JEDEC: MS-012-AA; Code_IPC: SOIC127P600-8; ComponentLink1Description: Manufacturer URL; ComponentLink1URL: http://www.national.com/; ComponentLink2Description: LMH0002 Datasheet; ComponentLink2URL: http://www.national.com/ds/LM/LMH0002.pdf; ComponentLink3Description: LMH0002 Web Page; ComponentLink3URL: http://www.national.com/pf/LM/LMH0002.html; ComponentLink4Description: M08A Package Page; ComponentLink4URL: http://www.national.com/packaging/folders/m08a.html
footprint M08A_N (SOIC, 8-Leads, Body 4.9x3.9mm, Pitch 1.27mm, IPC Medium Density)
footprint M08A_L (SOIC, 8-Leads, Body 4.9x3.9mm, Pitch 1.27mm, IPC High Density)
footprint M08A_M (SOIC, 8-Leads, Body 4.9x3.9mm, Pitch 1.27mm, IPC Low Density)
pins: 1 SDI (in), 2 ~{SDI} (in), 3 VEE (power), 4 RREF (in), 5 VCC (power), 6 SD/~{HD} (in), 7 ~{SDO} (out), 8 SDO (out)

## LMH0002SQ
designator U?
SMPTE 292M / 259M Serial Digital Cable Driver, 16-pin LLP; PartNumber: LMH0002SQ; Manufacturer: National Semiconductor; PackageTopMarking: NS*UZXYTT*L002; PowerWise: N; CompType: Interface IC; High-Reliability: Y; DatasheetVersion: Aug-2008; PackageVersion: revA, Dec-2005; PackageReference: SQB16A; PackageDescription: LLP, Plastic, Quad, 4 x 4 x 0.8mm, 16 Lead, 0.65mm Pitch, No Pullback; RoHS: N; PinCount: 16; ComponentLink1Description: Manufacturer URL; ComponentLink1URL: http://www.national.com/; ComponentLink2Description: LMH0002 Datasheet; ComponentLink2URL: http://www.national.com/ds/LM/LMH0002.pdf; ComponentLink3Description: LMH0002 Web Page; ComponentLink3URL: http://www.national.com/pf/LM/LMH0002.html; ComponentLink4Description: SQB16A Package Page; ComponentLink4URL: http://www.national.com/packaging/folders/sqb16a.html
footprint SQB16A (QFN, 16-Leads, Body 4x4mm, Pitch 0.65mm, Thermal Pad 2.6x2.6mm, NSC Recommended)
pins: 1 SDI (in), 2 ~{SDI} (in), 3 VEE (power), 4 RREF (in), 5 NC, 6 NC, 7 NC, 8 NC, 9 VCC (power), 10 SD/~{HD} (in), 11 ~{SDO} (out), 12 SDO (out), 13 NC, 14 NC, 15 NC, 16 NC, 17 DAP (power)

## LMH0002SQ/NOPB
designator U?
SMPTE 292M / 259M Serial Digital Cable Driver, 16-pin LLP, Pb-Free; PartNumber: LMH0002SQ/NOPB; Manufacturer: National Semiconductor; PackageTopMarking: NS*UZXYTT*L002; PowerWise: N; CompType: Interface IC; High-Reliability: Y; DatasheetVersion: Aug-2008; PackageVersion: revA, Dec-2005; PackageReference: SQB16A; PackageDescription: LLP, Plastic, Quad, 4 x 4 x 0.8mm, 16 Lead, 0.65mm Pitch, No Pullback; RoHS: Y; PinCount: 16; ComponentLink1Description: Manufacturer URL; ComponentLink1URL: http://www.national.com/; ComponentLink2Description: LMH0002 Datasheet; ComponentLink2URL: http://www.national.com/ds/LM/LMH0002.pdf; ComponentLink3Description: LMH0002 Web Page; ComponentLink3URL: http://www.national.com/pf/LM/LMH0002.html; ComponentLink4Description: SQB16A Package Page; ComponentLink4URL: http://www.national.com/packaging/folders/sqb16a.html
footprint SQB16A (QFN, 16-Leads, Body 4x4mm, Pitch 0.65mm, Thermal Pad 2.6x2.6mm, NSC Recommended)
pins: 1 SDI (in), 2 ~{SDI} (in), 3 VEE (power), 4 RREF (in), 5 NC, 6 NC, 7 NC, 8 NC, 9 VCC (power), 10 SD/~{HD} (in), 11 ~{SDO} (out), 12 SDO (out), 13 NC, 14 NC, 15 NC, 16 NC, 17 DAP (power)

## LMH0002SQE/NOPB
designator U?
SMPTE 292M / 259M Serial Digital Cable Driver, 16-pin LLP, Pb-Free; PartNumber: LMH0002SQE/NOPB; Manufacturer: National Semiconductor; PackageTopMarking: NS*UZXYTT*L002; PowerWise: N; CompType: Interface IC; High-Reliability: Y; DatasheetVersion: Aug-2008; PackageVersion: revA, Dec-2005; PackageReference: SQB16A; PackageDescription: LLP, Plastic, Quad, 4 x 4 x 0.8mm, 16 Lead, 0.65mm Pitch, No Pullback; RoHS: Y; PinCount: 16; ComponentLink1Description: Manufacturer URL; ComponentLink1URL: http://www.national.com/; ComponentLink2Description: LMH0002 Datasheet; ComponentLink2URL: http://www.national.com/ds/LM/LMH0002.pdf; ComponentLink3Description: LMH0002 Web Page; ComponentLink3URL: http://www.national.com/pf/LM/LMH0002.html; ComponentLink4Description: SQB16A Package Page; ComponentLink4URL: http://www.national.com/packaging/folders/sqb16a.html
footprint SQB16A (QFN, 16-Leads, Body 4x4mm, Pitch 0.65mm, Thermal Pad 2.6x2.6mm, NSC Recommended)
pins: 1 SDI (in), 2 ~{SDI} (in), 3 VEE (power), 4 RREF (in), 5 NC, 6 NC, 7 NC, 8 NC, 9 VCC (power), 10 SD/~{HD} (in), 11 ~{SDO} (out), 12 SDO (out), 13 NC, 14 NC, 15 NC, 16 NC, 17 DAP (power)

## LMH0002SQX/NOPB
designator U?
SMPTE 292M / 259M Serial Digital Cable Driver, 16-pin LLP, Pb-Free; PartNumber: LMH0002SQX/NOPB; Manufacturer: National Semiconductor; PackageTopMarking: NS*UZXYTT*L002; PowerWise: N; CompType: Interface IC; High-Reliability: Y; DatasheetVersion: Aug-2008; PackageVersion: revA, Dec-2005; PackageReference: SQB16A; PackageDescription: LLP, Plastic, Quad, 4 x 4 x 0.8mm, 16 Lead, 0.65mm Pitch, No Pullback; RoHS: Y; PinCount: 16; ComponentLink1Description: Manufacturer URL; ComponentLink1URL: http://www.national.com/; ComponentLink2Description: LMH0002 Datasheet; ComponentLink2URL: http://www.national.com/ds/LM/LMH0002.pdf; ComponentLink3Description: LMH0002 Web Page; ComponentLink3URL: http://www.national.com/pf/LM/LMH0002.html; ComponentLink4Description: SQB16A Package Page; ComponentLink4URL: http://www.national.com/packaging/folders/sqb16a.html
footprint SQB16A (QFN, 16-Leads, Body 4x4mm, Pitch 0.65mm, Thermal Pad 2.6x2.6mm, NSC Recommended)
pins: 1 SDI (in), 2 ~{SDI} (in), 3 VEE (power), 4 RREF (in), 5 NC, 6 NC, 7 NC, 8 NC, 9 VCC (power), 10 SD/~{HD} (in), 11 ~{SDO} (out), 12 SDO (out), 13 NC, 14 NC, 15 NC, 16 NC, 17 DAP (power)

## LMH0002TMA
designator U?
SMPTE 292M / 259M Serial Digital Cable Driver, 8-pin Narrow SOIC; PartNumber: LMH0002TMA; Manufacturer: National Semiconductor; PackageTopMarking: NSZXTT*L002T; PowerWise: N; CompType: Interface IC; High-Reliability: Y; DatasheetVersion: Aug-2008; PackageVersion: revM, May-2009; PackageReference: M08A; PackageDescription: SOIC Narrow, 4.9 x 3.9 x 1.45mm, 8 Lead, 1.27mm Pitch; RoHS: N; PinCount: 8; Code_JEDEC: MS-012-AA; Code_IPC: SOIC127P600-8; ComponentLink1Description: Manufacturer URL; ComponentLink1URL: http://www.national.com/; ComponentLink2Description: LMH0002 Datasheet; ComponentLink2URL: http://www.national.com/ds/LM/LMH0002.pdf; ComponentLink3Description: LMH0002 Web Page; ComponentLink3URL: http://www.national.com/pf/LM/LMH0002.html; ComponentLink4Description: M08A Package Page; ComponentLink4URL: http://www.national.com/packaging/folders/m08a.html
footprint M08A_N (SOIC, 8-Leads, Body 4.9x3.9mm, Pitch 1.27mm, IPC Medium Density)
footprint M08A_L (SOIC, 8-Leads, Body 4.9x3.9mm, Pitch 1.27mm, IPC High Density)
footprint M08A_M (SOIC, 8-Leads, Body 4.9x3.9mm, Pitch 1.27mm, IPC Low Density)
pins: 1 SDI (in), 2 ~{SDI} (in), 3 VEE (power), 4 RREF (in), 5 VCC (power), 6 SD/~{HD} (in), 7 ~{SDO} (out), 8 SDO (out)

## LMH0002TMA/NOPB
designator U?
SMPTE 292M / 259M Serial Digital Cable Driver, 8-pin Narrow SOIC, Pb-Free; PartNumber: LMH0002TMA/NOPB; Manufacturer: National Semiconductor; PackageTopMarking: NSZXTT*L002T; PowerWise: N; CompType: Interface IC; High-Reliability: Y; DatasheetVersion: Aug-2008; PackageVersion: revM, May-2009; PackageReference: M08A; PackageDescription: SOIC Narrow, 4.9 x 3.9 x 1.45mm, 8 Lead, 1.27mm Pitch; RoHS: Y; PinCount: 8; Code_JEDEC: MS-012-AA; Code_IPC: SOIC127P600-8; ComponentLink1Description: Manufacturer URL; ComponentLink1URL: http://www.national.com/; ComponentLink2Description: LMH0002 Datasheet; ComponentLink2URL: http://www.national.com/ds/LM/LMH0002.pdf; ComponentLink3Description: LMH0002 Web Page; ComponentLink3URL: http://www.national.com/pf/LM/LMH0002.html; ComponentLink4Description: M08A Package Page; ComponentLink4URL: http://www.national.com/packaging/folders/m08a.html
footprint M08A_N (SOIC, 8-Leads, Body 4.9x3.9mm, Pitch 1.27mm, IPC Medium Density)
footprint M08A_L (SOIC, 8-Leads, Body 4.9x3.9mm, Pitch 1.27mm, IPC High Density)
footprint M08A_M (SOIC, 8-Leads, Body 4.9x3.9mm, Pitch 1.27mm, IPC Low Density)
pins: 1 SDI (in), 2 ~{SDI} (in), 3 VEE (power), 4 RREF (in), 5 VCC (power), 6 SD/~{HD} (in), 7 ~{SDO} (out), 8 SDO (out)

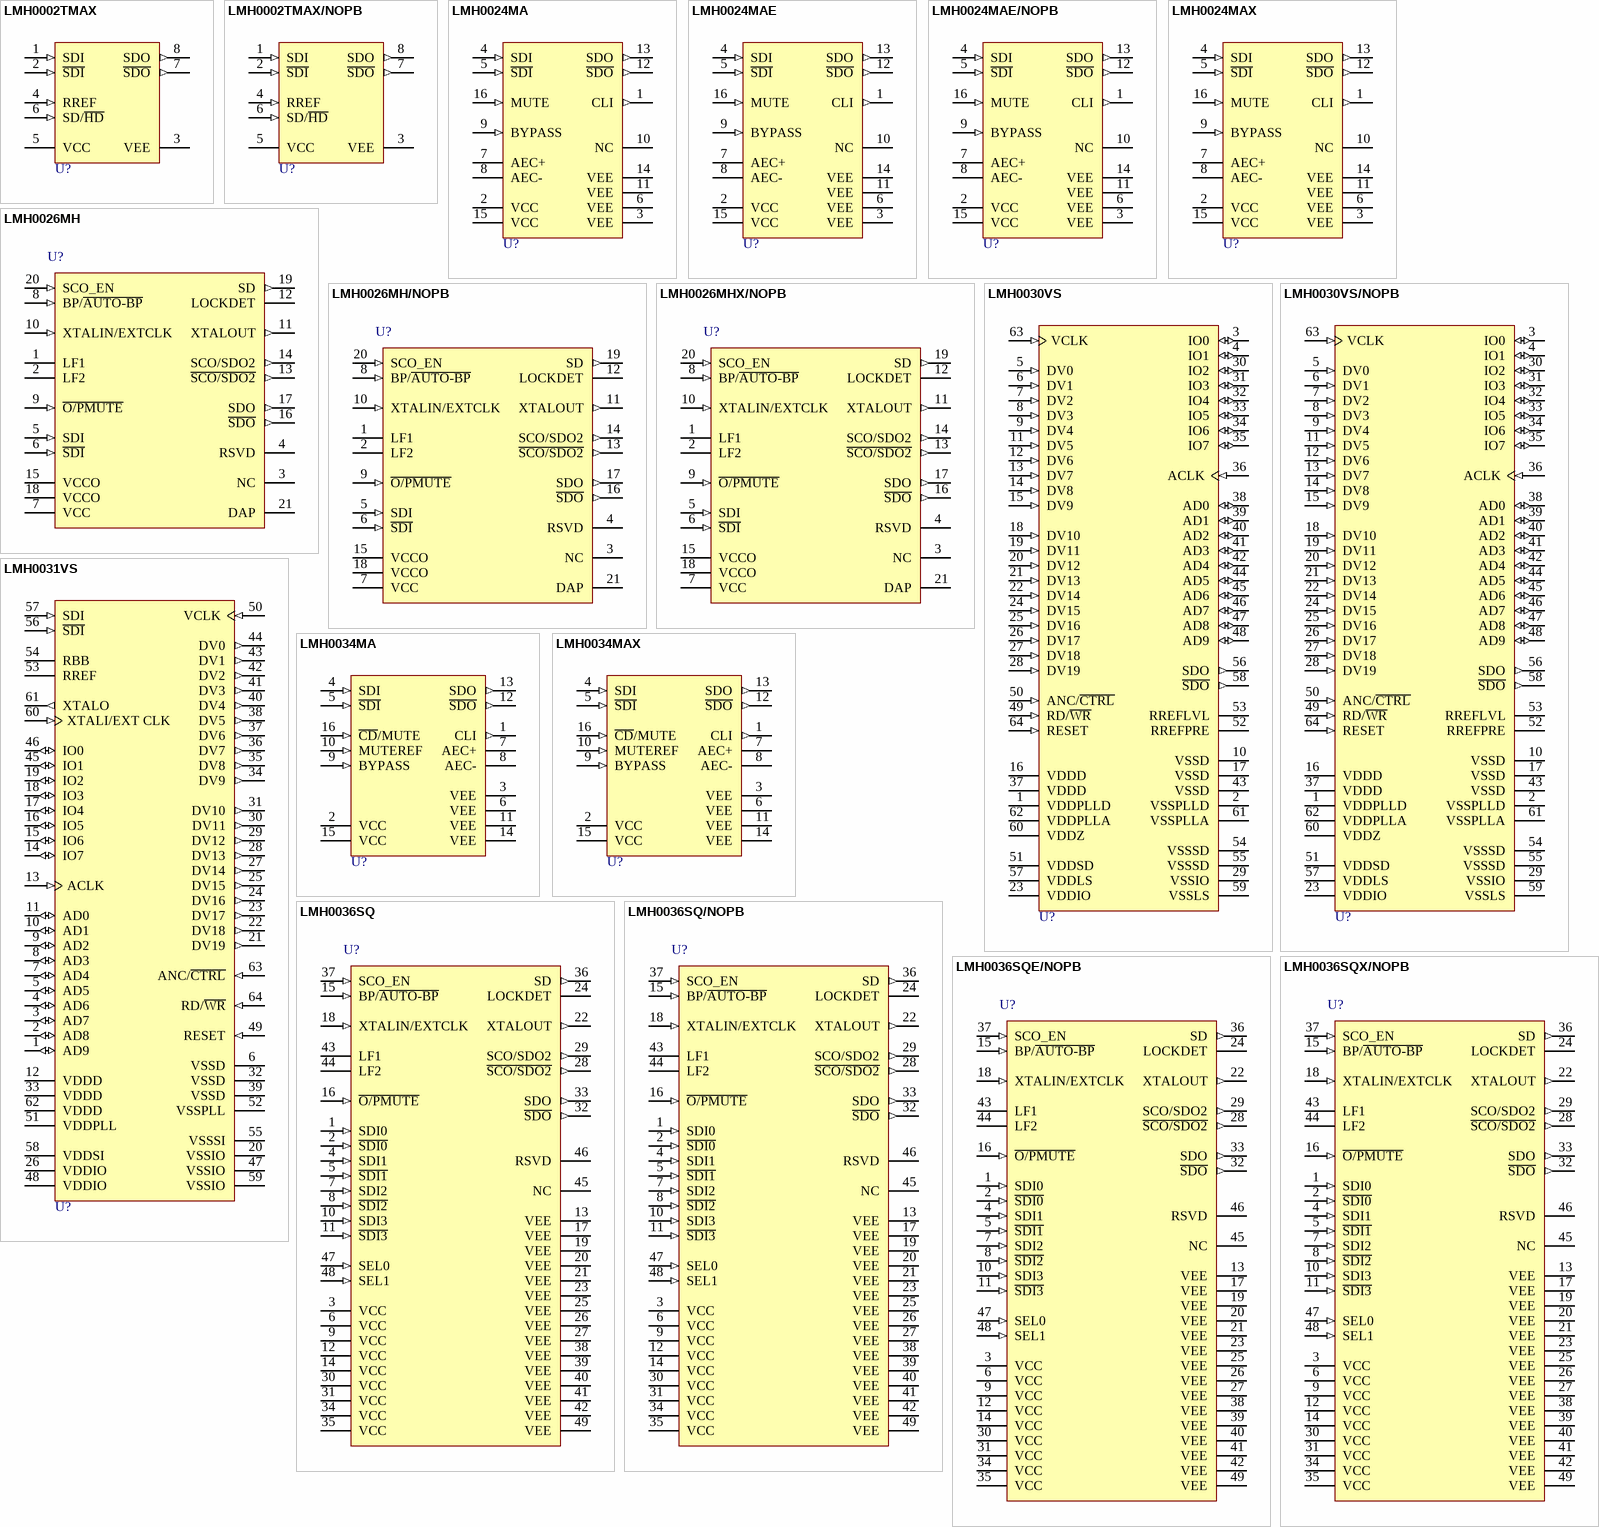
[diagram p83: symbols LMH0002TMAX to LMH0036SQX/NOPB]

## LMH0002TMAX
designator U?
SMPTE 292M / 259M Serial Digital Cable Driver, 8-pin Narrow SOIC; PartNumber: LMH0002TMAX; Manufacturer: National Semiconductor; PackageTopMarking: NSZXTT*L002T; PowerWise: N; CompType: Interface IC; High-Reliability: Y; DatasheetVersion: Aug-2008; PackageVersion: revM, May-2009; PackageReference: M08A; PackageDescription: SOIC Narrow, 4.9 x 3.9 x 1.45mm, 8 Lead, 1.27mm Pitch; RoHS: N; PinCount: 8; Code_JEDEC: MS-012-AA; Code_IPC: SOIC127P600-8; ComponentLink1Description: Manufacturer URL; ComponentLink1URL: http://www.national.com/; ComponentLink2Description: LMH0002 Datasheet; ComponentLink2URL: http://www.national.com/ds/LM/LMH0002.pdf; ComponentLink3Description: LMH0002 Web Page; ComponentLink3URL: http://www.national.com/pf/LM/LMH0002.html; ComponentLink4Description: M08A Package Page; ComponentLink4URL: http://www.national.com/packaging/folders/m08a.html
footprint M08A_N (SOIC, 8-Leads, Body 4.9x3.9mm, Pitch 1.27mm, IPC Medium Density)
footprint M08A_L (SOIC, 8-Leads, Body 4.9x3.9mm, Pitch 1.27mm, IPC High Density)
footprint M08A_M (SOIC, 8-Leads, Body 4.9x3.9mm, Pitch 1.27mm, IPC Low Density)
pins: 1 SDI (in), 2 ~{SDI} (in), 3 VEE (power), 4 RREF (in), 5 VCC (power), 6 SD/~{HD} (in), 7 ~{SDO} (out), 8 SDO (out)

## LMH0002TMAX/NOPB
designator U?
SMPTE 292M / 259M Serial Digital Cable Driver, 8-pin Narrow SOIC, Pb-Free; PartNumber: LMH0002TMAX/NOPB; Manufacturer: National Semiconductor; PackageTopMarking: NSZXTT*L002T; PowerWise: N; CompType: Interface IC; High-Reliability: Y; DatasheetVersion: Aug-2008; PackageVersion: revM, May-2009; PackageReference: M08A; PackageDescription: SOIC Narrow, 4.9 x 3.9 x 1.45mm, 8 Lead, 1.27mm Pitch; RoHS: Y; PinCount: 8; Code_JEDEC: MS-012-AA; Code_IPC: SOIC127P600-8; ComponentLink1Description: Manufacturer URL; ComponentLink1URL: http://www.national.com/; ComponentLink2Description: LMH0002 Datasheet; ComponentLink2URL: http://www.national.com/ds/LM/LMH0002.pdf; ComponentLink3Description: LMH0002 Web Page; ComponentLink3URL: http://www.national.com/pf/LM/LMH0002.html; ComponentLink4Description: M08A Package Page; ComponentLink4URL: http://www.national.com/packaging/folders/m08a.html
footprint M08A_N (SOIC, 8-Leads, Body 4.9x3.9mm, Pitch 1.27mm, IPC Medium Density)
footprint M08A_L (SOIC, 8-Leads, Body 4.9x3.9mm, Pitch 1.27mm, IPC High Density)
footprint M08A_M (SOIC, 8-Leads, Body 4.9x3.9mm, Pitch 1.27mm, IPC Low Density)
pins: 1 SDI (in), 2 ~{SDI} (in), 3 VEE (power), 4 RREF (in), 5 VCC (power), 6 SD/~{HD} (in), 7 ~{SDO} (out), 8 SDO (out)

## LMH0024MA
designator U?
SMPTE 259M / 259M Adaptive Cable Equalizer, 16-pin Narrow SOIC; PartNumber: LMH0024MA; Manufacturer: National Semiconductor; PackageTopMarking: NSUZXYTTE#*L024; PowerWise: N; CompType: Interface IC; High-Reliability: Y; DatasheetVersion: Jul-2009; PackageVersion: revJ, Aug-1995; PackageReference: M16A; PackageDescription: Molded Package, SO, .150in Wide, 16 Lead; RoHS: N; PinCount: 16; Code_JEDEC: MS-012-AC; Code_IPC: SOIC127P600-16; ComponentLink1Description: Manufacturer URL; ComponentLink1URL: http://www.national.com/; ComponentLink2Description: LMH0024 Datasheet; ComponentLink2URL: http://www.national.com/ds/LM/LMH0024.pdf; ComponentLink3Description: LMH0024 Web Page; ComponentLink3URL: http://www.national.com/pf/LM/LMH0024.html; ComponentLink4Description: M16A Package Page; ComponentLink4URL: http://www.national.com/packaging/folders/m16a.html
footprint M16A_N (SOIC, 16-Leads, Body 9.9x3.9mm, Pitch 1.27mm, IPC Medium Density)
footprint M16A_L (SOIC, 16-Leads, Body 9.9x3.9mm, Pitch 1.27mm, IPC High Density)
footprint M16A_M (SOIC, 16-Leads, Body 9.9x3.9mm, Pitch 1.27mm, IPC Low Density)
pins: 1 CLI (out), 2 VCC (power), 3 VEE (power), 4 SDI (in), 5 ~{SDI} (in), 6 VEE (power), 7 AEC+, 8 AEC-, 9 BYPASS (in), 10 NC, 11 VEE (power), 12 ~{SDO} (out), 13 SDO (out), 14 VEE (power), 15 VCC (power), 16 MUTE (in)

## LMH0024MAE
designator U?
3.3V SMPTE 259M / 344M Adaptive Cable Equalizer, 16-pin Narrow SOIC; PartNumber: LMH0024MAE; Manufacturer: National Semiconductor; PackageTopMarking: NSUZXYTTE#*L024; PowerWise: N; CompType: Interface IC; High-Reliability: Y; DatasheetVersion: Jul-2009; PackageVersion: revJ, Aug-1995; PackageReference: M16A; PackageDescription: Molded Package, SO, .150in Wide, 16 Lead; RoHS: N; PinCount: 16; Code_JEDEC: MS-012-AC; Code_IPC: SOIC127P600-16; ComponentLink1Description: Manufacturer URL; ComponentLink1URL: http://www.national.com/; ComponentLink2Description: LMH0024 Datasheet; ComponentLink2URL: http://www.national.com/ds/LM/LMH0024.pdf; ComponentLink3Description: LMH0024 Web Page; ComponentLink3URL: http://www.national.com/pf/LM/LMH0024.html; ComponentLink4Description: M16A Package Page; ComponentLink4URL: http://www.national.com/packaging/folders/m16a.html
footprint M16A_N (SOIC, 16-Leads, Body 9.9x3.9mm, Pitch 1.27mm, IPC Medium Density)
footprint M16A_L (SOIC, 16-Leads, Body 9.9x3.9mm, Pitch 1.27mm, IPC High Density)
footprint M16A_M (SOIC, 16-Leads, Body 9.9x3.9mm, Pitch 1.27mm, IPC Low Density)
pins: 1 CLI (out), 2 VCC (power), 3 VEE (power), 4 SDI (in), 5 ~{SDI} (in), 6 VEE (power), 7 AEC+, 8 AEC-, 9 BYPASS (in), 10 NC, 11 VEE (power), 12 ~{SDO} (out), 13 SDO (out), 14 VEE (power), 15 VCC (power), 16 MUTE (in)

## LMH0024MAE/NOPB
designator U?
3.3V SMPTE 259M / 344M Adaptive Cable Equalizer, 16-pin Narrow SOIC; PartNumber: LMH0024MAE/NOPB; Manufacturer: National Semiconductor; PackageTopMarking: NSUZXYTTE#*L024; PowerWise: N; CompType: Interface IC; High-Reliability: Y; DatasheetVersion: Jul-2009; PackageVersion: revJ, Aug-1995; PackageReference: M16A; PackageDescription: Molded Package, SO, .150in Wide, 16 Lead; RoHS: Y; PinCount: 16; Code_JEDEC: MS-012-AC; Code_IPC: SOIC127P600-16; ComponentLink1Description: Manufacturer URL; ComponentLink1URL: http://www.national.com/; ComponentLink2Description: LMH0024 Datasheet; ComponentLink2URL: http://www.national.com/ds/LM/LMH0024.pdf; ComponentLink3Description: LMH0024 Web Page; ComponentLink3URL: http://www.national.com/pf/LM/LMH0024.html; ComponentLink4Description: M16A Package Page; ComponentLink4URL: http://www.national.com/packaging/folders/m16a.html
footprint M16A_N (SOIC, 16-Leads, Body 9.9x3.9mm, Pitch 1.27mm, IPC Medium Density)
footprint M16A_L (SOIC, 16-Leads, Body 9.9x3.9mm, Pitch 1.27mm, IPC High Density)
footprint M16A_M (SOIC, 16-Leads, Body 9.9x3.9mm, Pitch 1.27mm, IPC Low Density)
pins: 1 CLI (out), 2 VCC (power), 3 VEE (power), 4 SDI (in), 5 ~{SDI} (in), 6 VEE (power), 7 AEC+, 8 AEC-, 9 BYPASS (in), 10 NC, 11 VEE (power), 12 ~{SDO} (out), 13 SDO (out), 14 VEE (power), 15 VCC (power), 16 MUTE (in)